# Altium footprint library QSTL_MicroDSUB_Plug_FFC.PcbLib: 2 footprints
Each footprint in its own frame and in the unit in brackets; x right, y up, seen from the top. Pads: shape width x height; smd on the part's side, far side on the other; paste and mask are expansions set on the pad; w line width, h text height; cw(c..) or ccw(c..) is an arc to the next point about the centre after c.
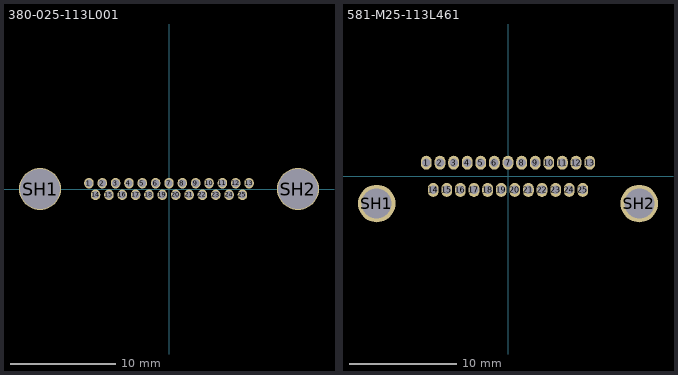
[diagram p0: the footprints below, top view; thin cyan lines are the x and y axes]

## 380-025-113L001 [mm] "https://www.digikey.ca/en/products/detail/norcomp-inc/380-025-213L001/2798600"
pads (27):
  oval 0.9x1 hole 0.7: 1(-7.62,0.55) 2(-6.35,0.55) 3(-5.08,0.55) 4(-3.81,0.55) 5(-2.54,0.55) 6(-1.27,0.55) 7(0,0.55) 8(1.27,0.55) 9(2.54,0.55) 10(3.81,0.55) 11(5.08,0.55) 12(6.35,0.55) 13(7.62,0.55) 14(-6.99,-0.55) 15(-5.72,-0.55) 16(-4.45,-0.55) 17(-3.18,-0.55) 18(-1.91,-0.55) 19(-0.64,-0.55) 20(0.64,-0.55) 21(1.91,-0.55) 22(3.18,-0.55) 23(4.45,-0.55) 24(5.72,-0.55) 25(6.99,-0.55)
  round 4 hole 3.8: SH1(-12.275,0) SH2(12.275,0)
3D body "380-025-113L001.STEP": height 10.1, standoff -2.9, extent -14.85,-3.65 14.85,3.7

## 581-M25-113L461 [mm] "https://www.digikey.com/en/products/detail/norcomp-inc/581-M25-113L461/13557494"
pads (27):
  oval 1x1.3 hole 0.8: 1(-7.62,1.27) 2(-6.35,1.27) 3(-5.08,1.27) 4(-3.81,1.27) 5(-2.54,1.27) 6(-1.27,1.27) 7(0,1.27) 8(1.27,1.27) 9(2.54,1.27) 10(3.81,1.27) 11(5.08,1.27) 12(6.35,1.27) 13(7.62,1.27) 14(-6.985,-1.27) 15(-5.715,-1.27) 16(-4.445,-1.27) 17(-3.175,-1.27) 18(-1.905,-1.27) 19(-0.635,-1.27) 20(0.635,-1.27) 21(1.905,-1.27) 22(3.175,-1.27) 23(4.445,-1.27) 24(5.715,-1.27) 25(6.985,-1.27)
  round 3.5 hole 2.8: SH1(-12.255,-2.54) SH2(12.255,-2.54)
3D body "581-M25-113L461.STEP": height 7.9, standoff -2.7, extent -15.07,-12.82 15.03,2.25